# EAGLE library part YX5200-24SS (library IC & Transistor)
MP3 chipset
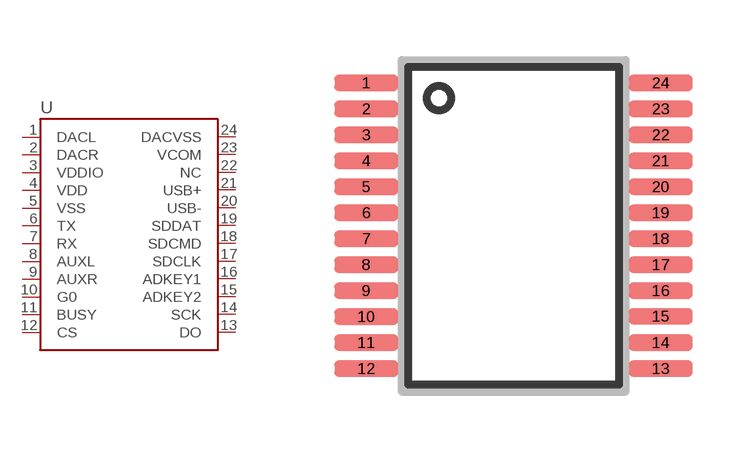
[diagram p32: symbol with the pads of SSOP-24; footprint SSOP-24]

Designator prefix -

## YX5200-24SS (CYTRON-PC: S-IC-YX5200; DESC: S MP3 decoder YX5200-24SS; MF: Yeu Xin; MPN: YX5200-24SS)  [SSOP-24]
1  DACL
2  DACR
3  VDDIO
4  VDD
5  VSS
6  TX
7  RX
8  AUXL
9  AUXR
10  G0
11  BUSY
12  CS
13  DO
14  SCK
15  ADKEY2
16  ADKEY1
17  SDCLK
18  SDCMD
19  SDDAT
20  USB-
21  USB+
22  NC
23  VCOM
24  DACVSS

## Footprint SSOP-24 (pad centres in mm)
Small Shrink Ouline Package (SSOP-24) Size: 7.6 x 8.3 mm Lead Pitch: 0.65
smd 1.6 x 0.4: 1 -3.683,3.575; 2 -3.683,2.925; 3 -3.683,2.275; 4 -3.683,1.625; 5 -3.683,0.975; 6 -3.683,0.325; 7 -3.683,-0.325; 8 -3.683,-0.975; 9 -3.683,-1.625; 10 -3.683,-2.275; 11 -3.683,-2.925; 12 -3.683,-3.575; 13 3.683,-3.575; 14 3.683,-2.925; 15 3.683,-2.265; 16 3.683,-1.625; 17 3.683,-0.975; 18 3.683,-0.325; 19 3.683,0.325; 20 3.683,0.975; 21 3.683,1.625; 22 3.683,2.275; 23 3.683,2.925; 24 3.683,3.575